# Altium footprint library pcb_home.PcbLib: 13 footprints
Each footprint in its own frame and in the unit in brackets; x right, y up, seen from the top. Pads: shape width x height; smd on the part's side, far side on the other; paste and mask are expansions set on the pad; w line width, h text height; cw(c..) or ccw(c..) is an arc to the next point about the centre after c.
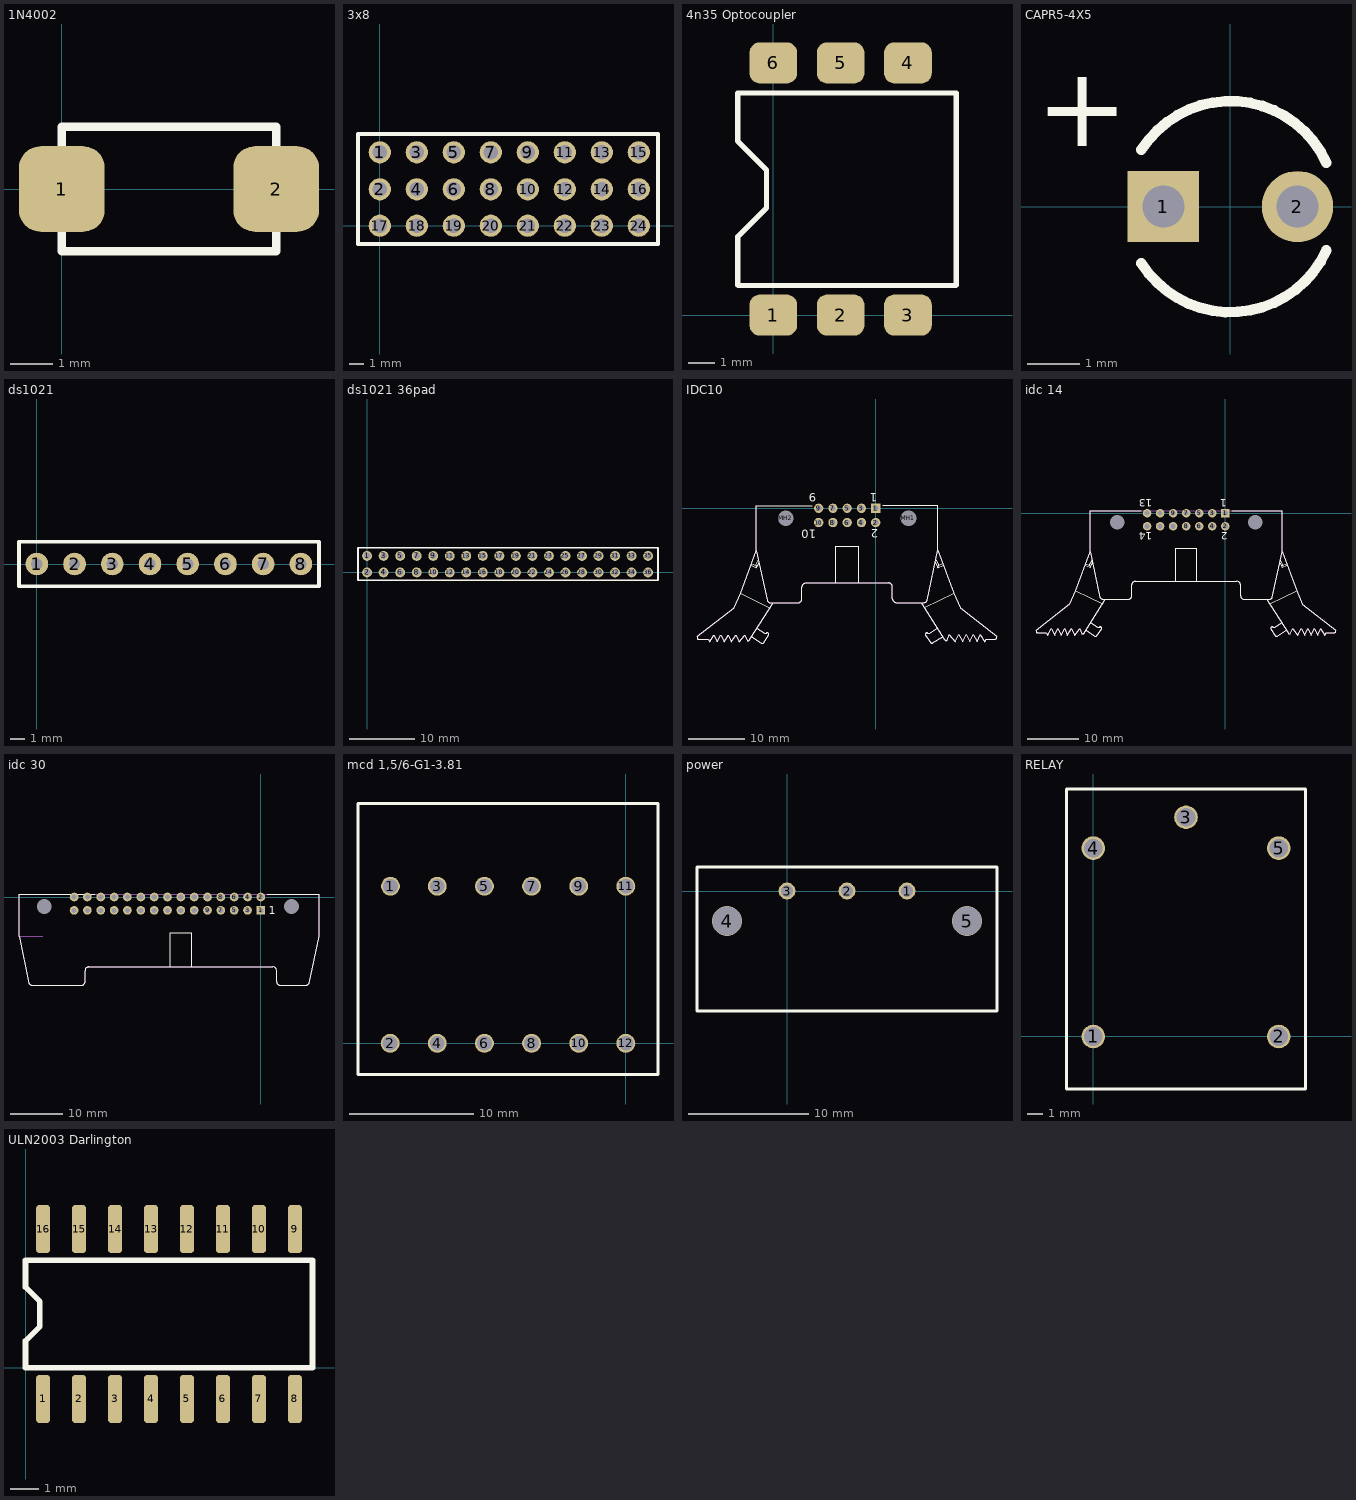
[diagram p0: the footprints below, top view; thin cyan lines are the x and y axes]

## 1N4002 [mm]
pads (2):
  rrect50% 2x2 smd: 1(0,0) 2(5,0)
Top Overlay:
  lines w0.2: 0,-1.45 5,-1.45 5,1.45 0,1.45 0,-1.45

## 3x8 [mil]
pads (24):
  round 60 hole 39.37: 1(0,198.43) 2(0,98.43) 3(100,198.43) 4(100,98.43) 5(200,198.43) 6(200,98.43) 7(300,198.43) 8(300,98.43) 9(400,198.43) 10(400,98.43) 11(500,198.43) 12(500,98.43) 13(600,198.43) 14(600,98.43) 15(700,198.43) 16(700,98.43) 17(0,0) 18(100,0) 19(200,0) 20(300,0) 21(400,0) 22(500,0) 23(600,0) 24(700,0)
Top Overlay:
  lines w10: -59.06,-49.21 -59.06,247.64 751.97,247.64 751.97,-49.21 -59.06,-49.21

## 4n35 Optocoupler [mm]
pads (6):
  rrect50% 1.8x1.55 smd: 1(0,0) 2(2.54,0) 3(5.08,0) 4(5.08,9.52) 5(2.54,9.52) 6(0,9.52)
Top Overlay:
  lines w0.2: -1.333,8.382 6.909,8.382 6.909,3.023 6.909,1.143 6.883,1.118 -1.321,1.118 -1.346,1.143 -1.346,2.953 -0.254,4.045 -0.254,5.48 -1.346,6.572 -1.346,8.382 -1.321,8.382

## CAPR5-4X5 [mm] "Capacitor; 2 Leads"
height 12
pads (2):
  rect 1.35x1.35 hole 0.8: 1(-1.27,0)
  round 1.35 hole 0.8: 2(1.27,0)
Top Overlay:
  lines w0.2: -1.687,-1.075 ccw(c0,0) 1.819,-0.832 ; -1.687,1.075 cw(c0,0) 1.819,0.832
  text "+" at -3.683,1.143 h1.52

## ds1021 [mil]
pads (8):
  round 60 hole 30: 1(0,0) 2(100,0) 3(200,0) 4(300,0) 5(400,0) 6(500,0) 7(600,0) 8(700,0)
Top Overlay:
  lines w10: -47.24,-59.06 -47.24,59.06 748.03,59.06 748.03,-59.06 -47.24,-59.06

## ds1021 36pad [mil]
pads (36):
  round 60 hole 39.37: 1(0,100) 2(0,0) 3(100,100) 4(100,0) 5(200,100) 6(200,0) 7(300,100) 8(300,0) 9(400,100) 10(400,0) 11(500,100) 12(500,0) 13(600,100) 14(600,0) 15(700,100) 16(700,0) 17(800,100) 18(800,0) 19(900,100) 20(900,0) 21(1000,100) 22(1000,0) 23(1100,100) 24(1100,0) 25(1200,100) 26(1200,0) 27(1300,100) 28(1300,0) 29(1400,100) 30(1400,0) 31(1500,100) 32(1500,0) 33(1600,100) 34(1600,0) 35(1700,100) 36(1700,0)
Top Overlay:
  lines w10: -55.12,-47.64 -55.12,149.21 1759.84,149.21 1759.84,-47.64 -55.12,-47.64

## IDC10 [mm]
pads (12):
  rect 1.65x1.65 hole 1: 1(0,0)
  round 1.65 hole 1: 2(0,-2.54) 3(-2.54,0) 4(-2.54,-2.54) 5(-5.08,0) 6(-5.08,-2.54) 7(-7.62,0) 8(-7.62,-2.54) 9(-10.16,0) 10(-10.16,-2.54)
  round 2.5 hole 2.8 unplated: MH1(5.84,-1.8) MH2(-16,-1.8)
Top Overlay:
  lines w0.2: -31.803,-22.872 ccw(c-31.494,-23.013) -31.494,-23.352 -29.883,-23.352 ; -31.755,-22.819 -25.22,-17.725 ; -25.205,-17.751 -24.079,-15.136 ; -22.21,-10.146 -21.245,-10.595 ; -22.081,-9.858 -21.41,-10.172 ; -22.075,-22.896 -20.352,-24.021 ccw(c-20.203,-23.682) -19.937,-23.939 -19.012,-22.541 ccw(c-19.332,-22.521) -19.384,-22.205 cw(c-19.652,-21.891) -19.787,-22.281 ; -21.153,-21.399 -19.79,-22.286 ; -20.883,-9.22 -21.41,-10.172 ; -20.783,-9.673 -21.245,-10.595 ; -18.855,-17.678 -24.079,-15.136 ; -18.284,-16.825 -22.418,-23.354 cw(c-22.741,-23.251) -22.883,-23.56 -23.29,-22.596 -24.32,-23.796 -24.95,-22.596 -25.7,-23.796 -26.25,-22.596 -26.95,-23.796 -27.57,-22.596 -28.22,-23.796 -28.82,-22.596 -29.564,-23.796 ; -12.525,-13.3 2.285,-13.3 cw(c2.285,-14) 2.985,-14 2.985,-16.1 ccw(c3.685,-16.1) 3.685,-16.8 8.53,-16.8 ccw(c8.545,-16.1) 9.19,-16.372 11.08,-7.5 ; -12.445,-13.325 ccw(c-12.445,-14.025) -13.145,-14.025 -13.145,-16.125 cw(c-13.845,-16.125) -13.845,-16.825 -18.69,-16.825 cw(c-18.705,-16.126) -19.35,-16.398 -21.24,-7.525 ; -11.27,0.475 -21.24,0.475 -21.24,-7.525 ; -7.14,-6.8 -3.04,-6.8 ; -7.13,-13.3 -7.13,-6.804 ; -3.03,-13.3 -3.03,-6.8 ; 1.225,0.5 11.08,0.5 11.08,-7.5 ; 8.124,-16.8 12.258,-23.328 ccw(c12.581,-23.226) 12.723,-23.535 13.13,-22.571 14.16,-23.771 14.79,-22.571 15.54,-23.771 16.09,-22.571 16.79,-23.771 17.41,-22.571 18.06,-23.771 18.661,-22.571 19.405,-23.771 ; 8.695,-17.653 13.919,-15.11 ; 9.627,-22.255 cw(c9.492,-21.865) 9.224,-22.18 ccw(c9.172,-22.495) 8.852,-22.515 9.777,-23.914 ccw(c10.043,-23.657) 10.192,-23.995 11.915,-22.87 ; 9.63,-22.261 10.993,-21.373 ; 10.623,-9.648 11.085,-10.57 ; 10.723,-9.195 11.25,-10.147 ; 11.921,-9.833 11.25,-10.147 ; 12.05,-10.121 11.085,-10.57 ; -29.564,-23.796 -29.82,-23.325 -29.564,-23.796 ; -24.079,-15.136 -21.24,-7.525 ; -21.41,-10.172 -21.245,-10.595 ; 11.08,-7.5 13.919,-15.11 ; 11.085,-10.57 11.25,-10.147 ; 13.919,-15.11 15.045,-17.725 21.58,-22.819 cw(c21.271,-22.96) 21.271,-23.3 19.66,-23.3 ; 19.405,-23.771 19.66,-23.3 ; 19.405,-23.771 19.66,-23.3
  text "9" at -10.566,2.642 h1.5
  text "10" at -10.592,-3.835 h1.5
  text "1" at 0.25,2.7 h1.5
  text "2" at 0.5,-3.74 h1.5
Mechanical 13:
  lines w0.1: -29.883,-23.352 -31.494,-23.352 cw(c-31.494,-23.013) -31.803,-22.872 -25.268,-17.778 ; -25.205,-17.751 -24.079,-15.136 -21.24,-7.525 ; -22.075,-22.896 -20.352,-24.021 ccw(c-20.203,-23.682) -19.937,-23.939 -19.012,-22.541 ccw(c-19.332,-22.521) -19.384,-22.205 cw(c-19.652,-21.891) -19.787,-22.281 ; -21.24,0.475 -21.24,-7.525 ; -21.153,-21.399 -19.79,-22.286 ; -18.284,-16.825 -22.418,-23.354 cw(c-22.741,-23.251) -22.883,-23.56 -23.29,-22.596 -24.32,-23.796 -24.95,-22.596 -25.7,-23.796 -26.25,-22.596 -26.95,-23.796 -27.57,-22.596 -28.22,-23.796 -28.82,-22.596 -29.564,-23.796 ; -12.445,-13.325 ccw(c-12.445,-14.025) -13.145,-14.025 -13.145,-16.125 cw(c-13.845,-16.125) -13.845,-16.825 -18.69,-16.825 cw(c-18.705,-16.126) -19.35,-16.398 -21.24,-7.525 ; -12.445,-13.3 2.285,-13.3 cw(c2.285,-14) 2.985,-14 2.985,-16.1 ccw(c3.685,-16.1) 3.685,-16.8 8.53,-16.8 ccw(c8.545,-16.1) 9.19,-16.372 11.08,-7.5 ; 8.124,-16.8 12.258,-23.328 ccw(c12.581,-23.226) 12.723,-23.535 13.13,-22.571 14.16,-23.771 14.79,-22.571 15.54,-23.771 16.09,-22.571 16.79,-23.771 17.41,-22.571 18.06,-23.771 18.661,-22.571 19.405,-23.771 ; 9.627,-22.255 cw(c9.492,-21.865) 9.224,-22.18 ccw(c9.172,-22.495) 8.852,-22.515 9.777,-23.914 ccw(c10.043,-23.657) 10.192,-23.995 11.915,-22.87 ; 9.63,-22.261 10.993,-21.373 ; 11.08,0.5 11.08,-7.5 ; -29.564,-23.796 -29.82,-23.325 -29.564,-23.796 ; 11.08,-7.5 13.919,-15.11 15.045,-17.725 21.58,-22.819 cw(c21.271,-22.96) 21.271,-23.3 19.66,-23.3 ; 19.405,-23.771 19.66,-23.3 ; 19.405,-23.771 19.66,-23.3

## idc 14 [mm]
pads (16):
  rect 1.65x1.65 hole 1: 1(0,0)
  round 1.65 hole 1: 2(0,-2.54) 3(-2.54,0) 4(-2.54,-2.54) 5(-5.08,0) 6(-5.08,-2.54) 7(-7.62,0) 8(-7.62,-2.54) 9(-10.16,0) 10(-10.16,-2.54) 11(-12.7,0) 12(-12.7,-2.54) 13(-15.24,0) 14(-15.24,-2.54)
  round 2.5 hole 2.8 unplated: MH1(5.84,-1.8) MH2(-21.08,-1.8)
Top Overlay:
  lines w0.2: -36.883,-22.846 ccw(c-36.574,-22.987) -36.574,-23.327 -34.963,-23.327 ; -36.835,-22.794 -30.3,-17.7 ; -30.285,-17.725 -29.159,-15.11 ; -27.29,-10.121 -26.325,-10.57 ; -27.161,-9.833 -26.49,-10.147 ; -27.155,-22.87 -25.432,-23.995 ccw(c-25.283,-23.657) -25.017,-23.914 -24.092,-22.515 ccw(c-24.412,-22.495) -24.464,-22.18 cw(c-24.732,-21.865) -24.867,-22.255 ; -26.233,-21.373 -24.87,-22.261 ; -25.963,-9.195 -26.49,-10.147 ; -25.863,-9.648 -26.325,-10.57 ; -23.935,-17.653 -29.159,-15.11 ; -23.364,-16.8 -27.498,-23.328 cw(c-27.821,-23.226) -27.963,-23.535 -28.37,-22.571 -29.4,-23.771 -30.03,-22.571 -30.78,-23.771 -31.33,-22.571 -32.03,-23.771 -32.65,-22.571 -33.3,-23.771 -33.9,-22.571 -34.644,-23.771 ; -16.35,0.5 -26.32,0.5 -26.32,-7.5 ; -9.68,-6.8 -5.58,-6.8 ; -9.67,-13.3 -9.67,-6.804 ; -5.57,-13.3 -5.57,-6.8 ; 1.225,0.5 11.08,0.5 11.08,-7.5 ; 8.124,-16.8 12.258,-23.328 ccw(c12.581,-23.226) 12.723,-23.535 13.13,-22.571 14.16,-23.771 14.79,-22.571 15.54,-23.771 16.09,-22.571 16.79,-23.771 17.41,-22.571 18.06,-23.771 18.661,-22.571 19.405,-23.771 ; 8.695,-17.653 13.919,-15.11 ; 9.627,-22.255 cw(c9.492,-21.865) 9.224,-22.18 ccw(c9.172,-22.495) 8.852,-22.515 9.777,-23.914 ccw(c10.043,-23.657) 10.192,-23.995 11.915,-22.87 ; 9.63,-22.261 10.993,-21.373 ; 10.623,-9.648 11.085,-10.57 ; 10.723,-9.195 11.25,-10.147 ; 11.921,-9.833 11.25,-10.147 ; 12.05,-10.121 11.085,-10.57 ; -34.644,-23.771 -34.9,-23.3 -34.644,-23.771 ; -29.159,-15.11 -26.32,-7.5 ; -26.49,-10.147 -26.325,-10.57 ; -26.32,-7.5 -24.43,-16.372 ccw(c-23.785,-16.1) -23.77,-16.8 -18.925,-16.8 ccw(c-18.925,-16.1) -18.225,-16.1 -18.225,-14 cw(c-17.525,-14) -17.525,-13.3 2.285,-13.3 cw(c2.285,-14) 2.985,-14 2.985,-16.1 ccw(c3.685,-16.1) 3.685,-16.8 8.53,-16.8 ccw(c8.545,-16.1) 9.19,-16.372 11.08,-7.5 ; 11.08,-7.5 13.919,-15.11 ; 11.085,-10.57 11.25,-10.147 ; 13.919,-15.11 15.045,-17.725 21.58,-22.819 cw(c21.271,-22.96) 21.271,-23.3 19.66,-23.3 ; 19.405,-23.771 19.66,-23.3 ; 19.405,-23.771 19.66,-23.3
  text "13" at -14.24,2.7 h1.5
  text "14" at -14.24,-3.74 h1.5
  text "1" at 0.25,2.7 h1.5
  text "2" at 0.5,-3.74 h1.5
Mechanical 13:
  lines w0.1: -34.963,-23.327 -36.574,-23.327 cw(c-36.574,-22.987) -36.883,-22.846 -30.348,-17.752 ; -30.285,-17.725 -29.159,-15.11 -26.32,-7.5 ; -27.155,-22.87 -25.432,-23.995 ccw(c-25.283,-23.657) -25.017,-23.914 -24.092,-22.515 ccw(c-24.412,-22.495) -24.464,-22.18 cw(c-24.732,-21.865) -24.867,-22.255 ; -26.233,-21.373 -24.87,-22.261 ; -23.364,-16.8 -27.498,-23.328 cw(c-27.821,-23.226) -27.963,-23.535 -28.37,-22.571 -29.4,-23.771 -30.03,-22.571 -30.78,-23.771 -31.33,-22.571 -32.03,-23.771 -32.65,-22.571 -33.3,-23.771 -33.9,-22.571 -34.644,-23.771 ; 8.124,-16.8 12.258,-23.328 ccw(c12.581,-23.226) 12.723,-23.535 13.13,-22.571 14.16,-23.771 14.79,-22.571 15.54,-23.771 16.09,-22.571 16.79,-23.771 17.41,-22.571 18.06,-23.771 18.661,-22.571 19.405,-23.771 ; 9.627,-22.255 cw(c9.492,-21.865) 9.224,-22.18 ccw(c9.172,-22.495) 8.852,-22.515 9.777,-23.914 ccw(c10.043,-23.657) 10.192,-23.995 11.915,-22.87 ; 9.63,-22.261 10.993,-21.373 ; -34.644,-23.771 -34.9,-23.3 -34.644,-23.771 ; -26.32,-7.5 -26.32,0.5 11.08,0.5 11.08,-7.5 ; -26.32,-7.5 -24.43,-16.372 ccw(c-23.785,-16.1) -23.77,-16.8 -18.925,-16.8 ccw(c-18.925,-16.1) -18.225,-16.1 -18.225,-14 cw(c-17.525,-14) -17.525,-13.3 2.285,-13.3 cw(c2.285,-14) 2.985,-14 2.985,-16.1 ccw(c3.685,-16.1) 3.685,-16.8 8.53,-16.8 ccw(c8.545,-16.1) 9.19,-16.372 11.08,-7.5 ; 11.08,-7.5 13.919,-15.11 15.045,-17.725 21.58,-22.819 cw(c21.271,-22.96) 21.271,-23.3 19.66,-23.3 ; 19.405,-23.771 19.66,-23.3 ; 19.405,-23.771 19.66,-23.3
3D body: height 8.5, standoff 0, extent -26.321,-16.807 11.081,0.501

## idc 30 [mm]
pads (32):
  rect 1.65x1.65 hole 1: 1(0,-2.54)
  round 1.65 hole 1: 2(0,0) 3(-2.54,-2.54) 4(-2.54,0) 5(-5.08,-2.54) 6(-5.08,0) 7(-7.62,-2.54) 8(-7.62,0) 9(-10.16,-2.54) 10(-10.16,0) 11(-12.7,-2.54) 12(-12.7,0) 13(-15.24,-2.54) 14(-15.24,0) 15(-17.78,-2.54) 16(-17.78,0) 17(-20.32,-2.54) 18(-20.32,0) 19(-22.86,-2.54) 20(-22.86,0) 21(-25.4,-2.54) 22(-25.4,0) 23(-27.94,-2.54) 24(-27.94,0) 25(-30.48,-2.54) 26(-30.48,0) 27(-33.02,-2.54) 28(-33.02,0) 29(-35.56,-2.54) 30(-35.56,0)
  round 2.5 hole 2.8 unplated: MH1(5.84,-1.8) MH2(-41.215,-1.8)
Top Overlay:
  lines w0.2: -46.04,-7.5 -44.15,-16.372 ccw(c-43.505,-16.1) -43.49,-16.8 ; -45.965,-7.5 -45.965,0.5 -31.59,0.5 ; -43.465,-16.8 -34.165,-16.8 ccw(c-34.165,-16.1) -33.465,-16.1 -33.465,-14 cw(c-32.765,-14) -32.765,-13.3 2.285,-13.3 cw(c2.285,-14) 2.985,-14 2.985,-16.1 ccw(c3.685,-16.1) 3.685,-16.8 ; -17.3,-6.8 -13.2,-6.8 ; -17.29,-13.3 -17.29,-6.804 ; -13.19,-13.3 -13.19,-6.8 ; 1.225,0.5 11.06,0.5 11.06,-7.5 9.17,-16.372 cw(c8.525,-16.1) 8.51,-16.8 3.685,-16.8
  text "1" at 1.524,-3.302 h1.5
Mechanical 13:
  lines w0.1: -46.04,-7.5 -44.15,-16.372 ccw(c-43.505,-16.1) -43.49,-16.8 ; -43.715,-16.8 -34.165,-16.8 ccw(c-34.165,-16.1) -33.465,-16.1 -33.465,-14 cw(c-32.765,-14) -32.765,-13.3 2.285,-13.3 cw(c2.285,-14) 2.985,-14 2.985,-16.1 ccw(c3.685,-16.1) 3.685,-16.8 ; -41.54,-7.5 -45.965,-7.5 -45.965,0.5 11.06,0.5 11.06,-7.5 9.17,-16.372 cw(c8.525,-16.1) 8.51,-16.8 3.685,-16.8
3D body: height 8.5, standoff 0, extent -46.215,-16.839 11.061,0.53

## mcd 1,5/6-G1-3.81 [mil]
pads (12):
  round 60 hole 47.24: 1(-749,500) 2(-750,0) 3(-600,500) 4(-600,0) 5(-450,500) 6(-450,0) 7(-300,500) 8(-300,0) 9(-150,500) 10(-150,0) 11(0,500) 12(0,0)
Top Overlay:
  lines w10: -852.36,-98.43 -852.36,762.8 ; -852,762.8 102,763 ; -851.58,-99 102,-99 ; 102.36,-98.43 102.36,762.8

## power [mm]
pads (5):
  round 1.4 hole 1: 1(10,0) 2(5,0) 3(0,0)
  round 2.5 hole 2.4: 4(-5,-2.5) 5(15,-2.5)
Top Overlay:
  lines w0.254: -7.5,-10 -7.5,2 9.5,2 17.5,2 17.5,-10 10,-10 2.5,-10 -7.5,-10

## RELAY [mm]
pads (5):
  round 1.524 hole 1.2 paste+0.5 mask+0.5: 1(0,0) 2(12,0) 3(6,14.2) 4(0,12.2) 5(12,12.2)
Top Overlay:
  lines w0.2: -1.75,-3.4 13.75,-3.4 13.75,16.027 -1.75,16.027 -1.75,-3.4

## ULN2003 Darlington [mm]
pads (16):
  rrect50% 0.5x1.7 smd: 1(0.62,-1.1) 2(1.89,-1.1) 3(3.16,-1.1) 4(4.43,-1.1) 5(5.7,-1.1) 6(6.97,-1.1) 7(8.24,-1.1) 8(9.51,-1.1) 9(9.51,4.9) 10(8.24,4.9) 11(6.97,4.9) 12(5.7,4.9) 13(4.43,4.9) 14(3.16,4.9) 15(1.89,4.9) 16(0.62,4.9)
Top Overlay:
  lines w0.2: 10.109,0 0,0 0,0.95 0.508,1.458 0.508,2.342 0,2.85 0,3.8 10.109,3.8 ; 10.13,0 10.13,3.8